# EAGLE library part MICROSTACK_12 (library laforge)
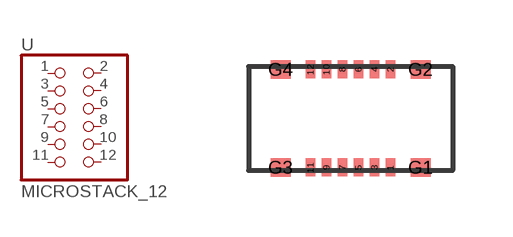
[diagram p26: symbol with the pads of MOLEX_MICROSTACK_12PIN; footprint MOLEX_MICROSTACK_12PIN]

Designator prefix -

## MICROSTACK_12  [MOLEX_MICROSTACK_12PIN]
1  1  pas
2  2  pas
3  3  pas
4  4  pas
5  5  pas
6  6  pas
7  7  pas
8  8  pas
9  9  pas
10  10  pas
11  11  pas
12  12  pas

## Footprint MOLEX_MICROSTACK_12PIN (pad centres in mm)
Molex MicroStack 503548-1220
smd 0.24 x 0.45: 1 1,-1.225; 2 1,1.225; 3 0.6,-1.225; 4 0.6,1.225; 5 0.2,-1.225; 6 0.2,1.225; 7 -0.2,-1.225; 8 -0.2,1.225; 9 -0.6,-1.225; 10 -0.6,1.225; 11 -1,-1.225; 12 -1,1.225
smd 0.5 x 0.47: G1 1.75,-1.225; G2 1.75,1.225; G3 -1.75,-1.225; G4 -1.75,1.225